# Altium schematic symbol library Symbol.SchLib: 1 symbol
Pins are listed as number, name and electrical type; pins without a type are passive.

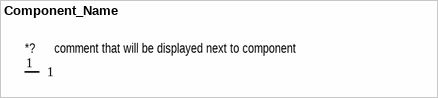
[diagram p0: symbol Component_Name]

## Component_Name
designator *?, comment comment that will be displayed next to component
*; Manufacturer: manufacturer name; Part Number: manufacturer part number; Power Dissipation: * W; Rated Voltage: * V; Rated Current: * A; Tolerance: * %; Value: value. ex., 10k, 100nF, ...; Other: additional parameters; Case: case/package type name; Operating Temperature: -xx °C to +xx °C; Type: component type. ex., IC, LED, ...; HelpURL: link to datasheet or info; Default Comment: comment that will be displayed next to component; Rated Power: * W; Summary: ="Type"+" "+"Part Number"+" "+"Manufacturer"+" "+"Value"+" "+"Tolerance"+" "+"Operating Temperature"+" "+"Case"+" "+"Power Dissipation"+" "+"Rated Current"+" "+"Rated Power"+" "+"Rated Voltage"+" "+"Other"; Assembly: *
pins: 1